# EAGLE library part CMWX1ZZABZ-078 (library CMWX1ZZABZ-078)
RF MODULE 860-930MHz 12.5x11.6x1.76mm 3.3Vdc
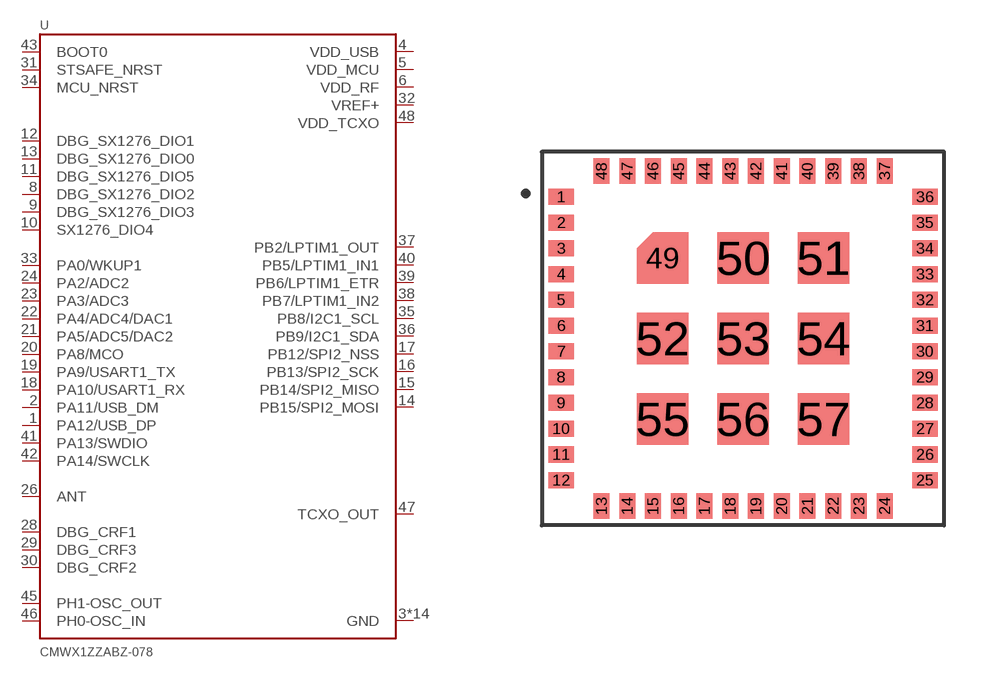
[diagram p0: symbol with the pads of XCVR_CMWX1ZZABZ-078; footprint XCVR_CMWX1ZZABZ-078]

Designator prefix U

## CMWX1ZZABZ-078 (Availability: Good; Description: RF MODULE 860-930MHz 12.5x11.6x1.76mm 3.3Vdc; MF: Murata; MP: CMWX1ZZABZ-078; Package: Module Murata; Price: 13.62 USD)  [XCVR_CMWX1ZZABZ-078]
1  PA12/USB_DP
2  PA11/USB_DM
3  GND  pwr
4  VDD_USB  pwr
5  VDD_MCU  pwr
6  VDD_RF  pwr
7  GND  pwr
8  DBG_SX1276_DIO2
9  DBG_SX1276_DIO3
10  SX1276_DIO4
11  DBG_SX1276_DIO5
12  DBG_SX1276_DIO1
13  DBG_SX1276_DIO0
14  PB15/SPI2_MOSI
15  PB14/SPI2_MISO
16  PB13/SPI2_SCK
17  PB12/SPI2_NSS
18  PA10/USART1_RX
19  PA9/USART1_TX
20  PA8/MCO
21  PA5/ADC5/DAC2
22  PA4/ADC4/DAC1
23  PA3/ADC3
24  PA2/ADC2
25  GND  pwr
26  ANT
27  GND  pwr
28  DBG_CRF1
29  DBG_CRF3
30  DBG_CRF2
31  STSAFE_NRST  in
32  VREF+  pwr
33  PA0/WKUP1
34  MCU_NRST  in
35  PB8/I2C1_SCL
36  PB9/I2C1_SDA
37  PB2/LPTIM1_OUT
38  PB7/LPTIM1_IN2
39  PB6/LPTIM1_ETR
40  PB5/LPTIM1_IN1
41  PA13/SWDIO
42  PA14/SWCLK
43  BOOT0  in
44  GND  pwr
45  PH1-OSC_OUT
46  PH0-OSC_IN
47  TCXO_OUT  out
48  VDD_TCXO  pwr
49  GND  pwr
50  GND  pwr
51  GND  pwr
52  GND  pwr
53  GND  pwr
54  GND  pwr
55  GND  pwr
56  GND  pwr
57  GND  pwr

## Footprint XCVR_CMWX1ZZABZ-078 (pad centres in mm)
smd 0.8 x 0.5: 1 -5.65,4.4; 2 -5.65,3.6; 3 -5.65,2.8; 4 -5.65,2; 5 -5.65,1.2; 6 -5.65,0.4; 7 -5.65,-0.4; 8 -5.65,-1.2; 9 -5.65,-2; 10 -5.65,-2.8; 11 -5.65,-3.6; 12 -5.65,-4.4; 25 5.65,-4.4; 26 5.65,-3.6; 27 5.65,-2.8; 28 5.65,-2; 29 5.65,-1.2; 30 5.65,-0.4; 31 5.65,0.4; 32 5.65,1.2; 33 5.65,2; 34 5.65,2.8; 35 5.65,3.6; 36 5.65,4.4
smd 0.5 x 0.8: 13 -4.4,-5.2; 14 -3.6,-5.2; 15 -2.8,-5.2; 16 -2,-5.2; 17 -1.2,-5.2; 18 -0.4,-5.2; 19 0.4,-5.2; 20 1.2,-5.2; 21 2,-5.2; 22 2.8,-5.2; 23 3.6,-5.2; 24 4.4,-5.2; 37 4.4,5.2; 38 3.6,5.2; 39 2.8,5.2; 40 2,5.2; 41 1.2,5.2; 42 0.4,5.2; 43 -0.4,5.2; 44 -1.2,5.2; 45 -2,5.2; 46 -2.8,5.2; 47 -3.6,5.2; 48 -4.4,5.2
smd 1 x 1: 49 -2.5,2.5
smd 1.6 x 1.6: 50 0,2.5; 51 2.5,2.5; 52 -2.5,0; 53 0,0; 54 2.5,0; 55 -2.5,-2.5; 56 0,-2.5; 57 2.5,-2.5